# Altium schematic symbol library BottomBoardLib.SCHLIB: 4 symbols
Pins are listed as number, name and electrical type; pins without a type are passive.

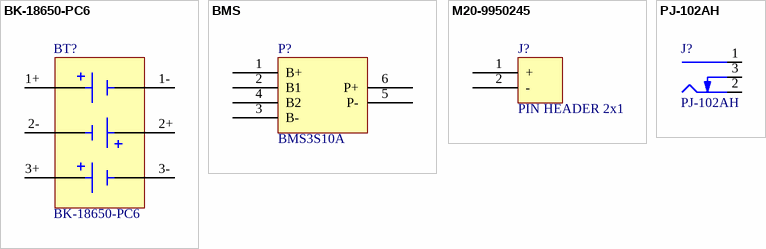
[diagram p0: symbols BK-18650-PC6 to PJ-102AH]

## BK-18650-PC6
designator BT?
Battery Holder _Open_ 18650 3 Cell PC Pin; MF: MPD; Price: None; Package: None; Availability: Unavailable; SnapEDA_Link: https://www.snapeda.com/parts/BK-18650-PC6/MPD/view-part/4480464/?ref=snap; Value: *; MP: BK-18650-PC6
footprint BAT_BK-18650-PC6 (Footprint not found)
pins: 1+, 1-, 2+, 2-, 3+, 3-

## BMS
designator P?, comment BMS3S10A
BMS HX-3S-FL10 / Size: 53*17*4 mm / Max Working Current: 6-8 A / Instant Max Working Current: 10-13 A / Charging Voltage: 12.6-13 V / Working Temperature: -40º C - +50º C
footprint BMS
pins: 1 B+, 2 B1, 3 B-, 4 B2, 5 P-, 6 P+

## M20-9950245
designator J?, comment PIN HEADER 2x1
M20-9950245 Pin Connector; ComponentLink1Description: Datasheet; ComponentLink1URL: https://www.snapeda.com/parts/M20-9950245/Harwin/datasheet/
footprint M20-9950245 (M20-9950245 Pin Connector)
pins: 1 +, 2 -

## PJ-102AH
designator J?
CONN PWR JACK 2X5.5MM SOLDER; Manufacturer: CUI Devices; Actual Diameter: 0.079" (2.00mm ID), 0.256" (6.50mm OD); Current Rating (Amps): 5A; Gender: Male; Industry Recognized Mating Diameter: 2.00mm ID (0.079"), 5.50mm OD (0.217"); Internal Switch(s): Single Switch, Normally Closed; Material Flammability Rating: UL94 V-0; Mating Length/Depth: 0.354" (9.00mm); Number of Positions/Contacts: 2 Conductors, 3 Contacts; Shielding: Unshielded; Voltage - Rated: 24VDC; Part Number: PJ-102AH; ComponentLink1Description: Datasheet; ComponentLink1URL: https://www.cuidevices.com/product/resource/digikeypdf/pj-102ah.pdf; ComponentLink2Description: DigiKey Link; ComponentLink2URL: //digikey.com/product-detail/en/cui-devices/PJ-102AH/CP-102AH-ND/408448; Connector Type: Jack; LastUpdated: 12/16/2019 19:01:27; Lifecycle Status: 0; Minimum Order: 1; Mounting Type: Through Hole, Right Angle; Packaging: Tray; Part Status: Active; Price: 0.76; Series: -; Supplier 1: DigiKey; Supplier Part Number 1: CP-102AH-ND; Termination: Solder
footprint CUI PJ-102AH
pins: 1 Centre, 2 Outer, 3 SW